# Altium schematic symbol library SFH6916.SchLib: 1 symbol
Pins are listed as number, name and electrical type; pins without a type are passive.

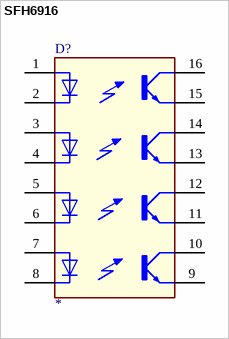
[diagram p0: symbol SFH6916]

## SFH6916
designator D?
Optoisolator Transistor Output 3750Vrms 4 Channel 16-SOP; MP: SFH6916; MF: Vishay; Availability: Unavailable; SnapEDA_Link: https://www.snapeda.com/parts/SFH6916/Vishay%20Semiconductor%20Opto%20Division/view-part/1160222/?ref=snap; Price: None; Value: *; Package: SOIC-16
footprint SFH6916
pins: 1 A1, 2 C1, 3 A2, 4 C2, 5 A3, 6 C3, 7 A4, 8 C4, 9 E4, 10 CO4, 11 E3, 12 CO3, 13 E2, 14 CO2, 15 E1, 16 CO1